# Altium schematic symbol library 32-6554-11.SchLib: 1 symbol
Pins are listed as number, name and electrical type; pins without a type are passive.

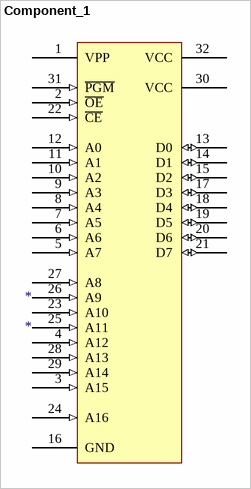
[diagram p0: symbol Component_1]

## Component_1
designator *
footprint PCBComponent_1
pins: 1 VPP (power), 2 ~{OE} (in), 3 A15 (in), 4 A12 (in), 5 A7 (in), 6 A6 (in), 7 A5 (in), 8 A4 (in), 9 A3 (in), 10 A2 (in), 11 A1 (in), 12 A0 (in), 13 D0 (io), 14 D1 (io), 15 D2 (io), 16 GND (power), 17 D3 (io), 18 D4 (io), 19 D5 (io), 20 D6 (io), 21 D7 (io), 22 ~{CE} (in), 23 A10 (in), 24 A16 (in), 25 A11 (in), 26 A9 (in), 27 A8 (in), 28 A13 (in), 29 A14 (in), 30 VCC (power), 31 ~{PGM} (in), 32 VCC (power)